# Altium footprint library LEDM2012X70N.PcbLib: 1 footprints
Each footprint in its own frame and in the unit in brackets; x right, y up, seen from the top. Pads: shape width x height; smd on the part's side, far side on the other; paste and mask are expansions set on the pad; w line width, h text height; cw(c..) or ccw(c..) is an arc to the next point about the centre after c.
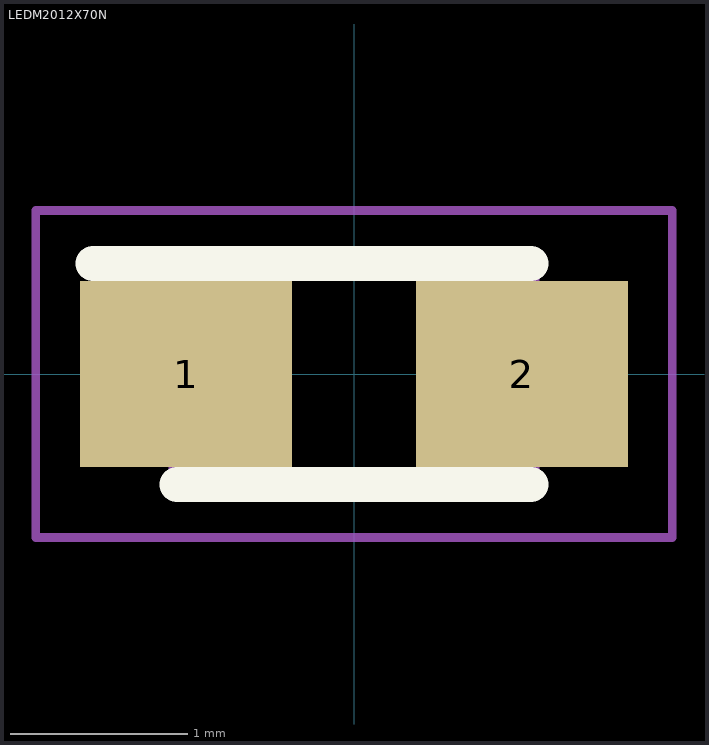
[diagram p0: the footprint, top view; thin cyan lines are the x and y axes]

## LEDM2012X70N [mm]
pads (2):
  rect 1.2x1.05 smd: 1(-0.95,0) 2(0.95,0)
Top Overlay:
  lines w0.2: -1.475,0.625 1,0.625 ; -1,-0.625 1,-0.625
Mechanical 15:
  lines w0.1: -1,0.1 -0.475,0.625 ; -1,-0.625 1,-0.625 1,0.625 -1,0.625 -1,-0.625
Mechanical 20:
  lines w0.05: -1.8,-0.925 1.8,-0.925 1.8,0.925 -1.8,0.925 -1.8,-0.925